# Altium footprint library SL_Inductors.PcbLib: 12 footprints
Each footprint in its own frame and in the unit in brackets; x right, y up, seen from the top. Pads: shape width x height; smd on the part's side, far side on the other; paste and mask are expansions set on the pad; w line width, h text height; cw(c..) or ccw(c..) is an arc to the next point about the centre after c.
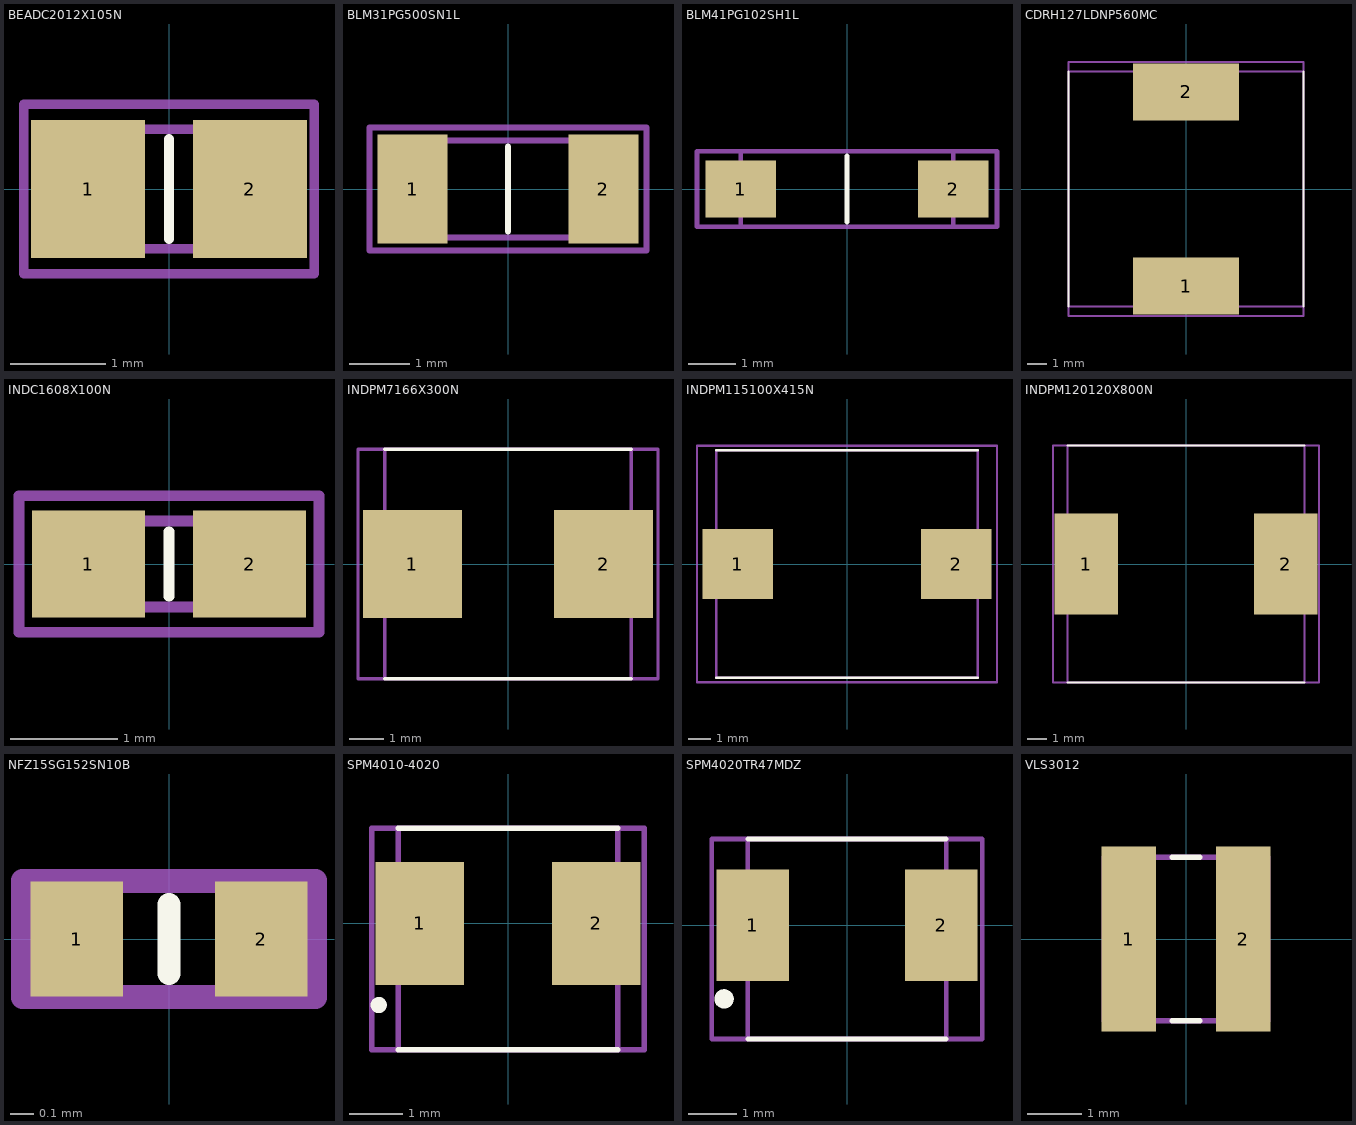
[diagram p0: the footprints below, top view; thin cyan lines are the x and y axes]

## BEADC2012X105N [mm]
pads (2):
  rect 1.2x1.45 smd: 1(-0.85,0) 2(0.85,0)
Top Overlay:
  lines w0.1: 0,-0.525 0,0.525
Mechanical 13:
  lines w0.1: -1,-0.625 -1,0.625 1,0.625 1,-0.625 -1,-0.625
Mechanical 15:
  lines w0.1: -1.524,-0.889 -1.524,0.889 1.524,0.889 1.524,-0.889 -1.524,-0.889
3D body "MPZ2012S221AT000.stp": height 1.05, standoff 0, extent -1,-0.625 1,0.625

## BLM31PG500SN1L [mm]
pads (2):
  rect 1.15x1.8 smd: 1(-1.575,0) 2(1.575,0)
Top Overlay:
  lines w0.1: 0,-0.7 0,0.7
Mechanical 13:
  lines w0.1: -1.6,-0.8 1.6,-0.8 1.6,0.8 -1.6,0.8 -1.6,-0.8
Mechanical 15:
  lines w0.1: -2.286,-1.016 2.286,-1.016 2.286,1.016 -2.286,1.016 -2.286,-1.016
3D body "BLM31PG500SN1L.stp": height 1.1, standoff 0, extent -1.6,-0.8 1.6,0.8

## BLM41PG102SH1L [mm]
pads (2):
  rect 1.5x1.2 smd: 1(-2.25,0) 2(2.25,0)
Top Overlay:
  lines w0.1: 0,-0.7 0,0.7
Mechanical 13:
  lines w0.1: -2.25,-0.8 2.25,-0.8 2.25,0.8 -2.25,0.8 -2.25,-0.8
Mechanical 15:
  lines w0.1: -3.175,-0.8 3.175,-0.8 3.175,0.8 -3.175,0.8 -3.175,-0.8
3D body "BLM41PG600SN1L.stp": height 1.6, standoff 0, extent -2.25,-0.8 2.25,0.8

## CDRH127LDNP560MC [mm]
pads (2):
  rect 5.4x2.9 smd: 1(0,-4.95) 2(0,4.95)
Top Overlay:
  lines w0.1: -6,-6 -6,6 ; 6,-6 6,6
Mechanical 13:
  lines w0.1: -6,-6 -6,6 6,6 6,-6 -6,-6
Mechanical 15:
  lines w0.1: -6,-6.477 -6,6.477 6,6.477 6,-6.477 -6,-6.477
3D body "CDRH127_LDNP-560MC.stp": height 8.1, standoff 0, extent -6,-6.11 6,6.11

## INDC1608X100N [mm]
pads (2):
  rect 1.05x1 smd: 1(-0.75,0) 2(0.75,0)
Top Overlay:
  lines w0.1: 0,-0.3 0,0.3
Mechanical 13:
  lines w0.1: -0.8,-0.4 0.8,-0.4 0.8,0.4 -0.8,0.4 -0.8,-0.4
Mechanical 15:
  lines w0.1: -1.397,-0.635 1.397,-0.635 1.397,0.635 -1.397,0.635 -1.397,-0.635
3D body "CBMF1608T470K.stp": height 1, standoff 0, extent -0.8,-0.4 0.8,0.4

## INDPM7166X300N [mm]
pads (2):
  rect 2.85x3.1 smd: 1(-2.75,0) 2(2.75,0)
Top Overlay:
  lines w0.1: -3.55,-3.3 3.55,-3.3 ; -3.55,3.3 3.55,3.3
Mechanical 13:
  lines w0.1: -3.55,-3.3 -3.55,3.3 3.55,3.3 3.55,-3.3 -3.55,-3.3
Mechanical 15:
  lines w0.1: -4.318,-3.3 -4.318,3.302 4.318,3.302 4.318,-3.3 -4.318,-3.3
3D body "SRP6030WA-220M.stp": height 3, standoff 0, extent -3.55,-3.3 3.55,3.3

## INDPM115100X415N [mm]
pads (2):
  rect 3.1x3.1 smd: 1(-4.8,0) 2(4.8,0)
Top Overlay:
  lines w0.1: -5.75,-5 5.75,-5 ; -5.75,5 5.75,5
Mechanical 13:
  lines w0.1: -5.75,-5 5.75,-5 5.75,5 -5.75,5 -5.75,-5
Mechanical 15:
  lines w0.1: -6.6,-5.2 6.6,-5.2 6.6,5.2 -6.6,5.2 -6.6,-5.2
3D body "104CDMCCDS-2R2MC.stp": height 4.15, standoff 0, extent -5.75,-5 5.75,5

## INDPM120120X800N [mm]
pads (2):
  rect 3.2x5.1 smd: 1(-5.05,0) 2(5.05,0)
Top Overlay:
  lines w0.1: -6,-6 6,-6 ; -6,6 6,6
Mechanical 13:
  lines w0.1: -6,-6 -6,6 6,6 6,-6 -6,-6
Mechanical 15:
  lines w0.1: -6.731,-6 -6.731,6 6.731,6 6.731,-6 -6.731,-6
3D body "CDRH127_LDNP-330MC.stp": height 8, standoff 0, extent -6,-6 6,6

## NFZ15SG152SN10B [mm]
pads (2):
  rect 0.4x0.5 smd mask+0.051: 1(-0.4,0) 2(0.4,0)
Top Overlay:
  lines w0.1: 0,-0.15 0,0.15
Mechanical 13:
  lines w0.1: -0.5,-0.25 0.5,-0.25 0.5,0.25 -0.5,0.25 -0.5,-0.25
Mechanical 15:
  lines w0.1: -0.635,-0.254 0.635,-0.254 0.635,0.254 -0.635,0.254 -0.635,-0.254
3D body "BLM15AG102SN1J.stp": height 0.5, standoff 0, extent -0.5,-0.25 0.5,0.25

## SPM4010-4020 [mm]
pads (2):
  rect 1.65x2.3 smd: 1(-1.65,0) 2(1.65,0)
Top Overlay:
  circle w0.2: c-2.413,-1.524 r0.05
  lines w0.1: -2.05,-2.36 2.05,-2.36 ; -2.05,1.778 2.05,1.778
Mechanical 13:
  lines w0.1: -2.05,-2.36 -2.05,1.778 2.05,1.778 2.05,-2.36 -2.05,-2.36
Mechanical 15:
  lines w0.1: -2.54,-2.36 -2.54,1.778 2.54,1.778 2.54,-2.36 -2.54,-2.36
3D body "SPM4020T-2R2M-LR.stp": height 2, standoff 0, extent -2.2,-2.36 2.2,1.74

## SPM4020TR47MDZ [mm]
pads (2):
  rect 1.5x2.3 smd: 1(-1.95,0) 2(1.95,0)
Top Overlay:
  circle w0.2: c-2.54,-1.524 r0.1
  lines w0.1: -2.05,-2.35 2.05,-2.35 ; -2.05,1.778 2.05,1.778
Mechanical 13:
  lines w0.1: -2.05,-2.35 -2.05,1.778 2.05,1.778 2.05,-2.35 -2.05,-2.35
Mechanical 15:
  lines w0.1: -2.794,-2.35 -2.794,1.778 2.794,1.778 2.794,-2.35 -2.794,-2.35
3D body "SPM4020T-2R2M-DZ.stp": height 1.5, standoff 0, extent -2.2,-2.35 2.2,1.75

## VLS3012 [mm]
pads (2):
  rect 1x3.4 smd: 1(-1.05,0) 2(1.05,0)
Top Overlay:
  lines w0.1: -0.25,-1.5 0.25,-1.5 ; -0.25,1.5 0.25,1.5
Mechanical 13:
  lines w0.1: -1.5,-1.5 -1.5,1.5 1.5,1.5 1.5,-1.5 -1.5,-1.5
3D body "VLS3012HBX-220M.stp": height 1.2, standoff 0, extent -1.502,-1.509 1.502,1.509